# Altium footprint library Badge.PcbLib: 20 footprints (part 1 of 2)
Each footprint in its own frame and in the unit in brackets; x right, y up, seen from the top. Pads: shape width x height; smd on the part's side, far side on the other; paste and mask are expansions set on the pad; w line width, h text height; cw(c..) or ccw(c..) is an arc to the next point about the centre after c.
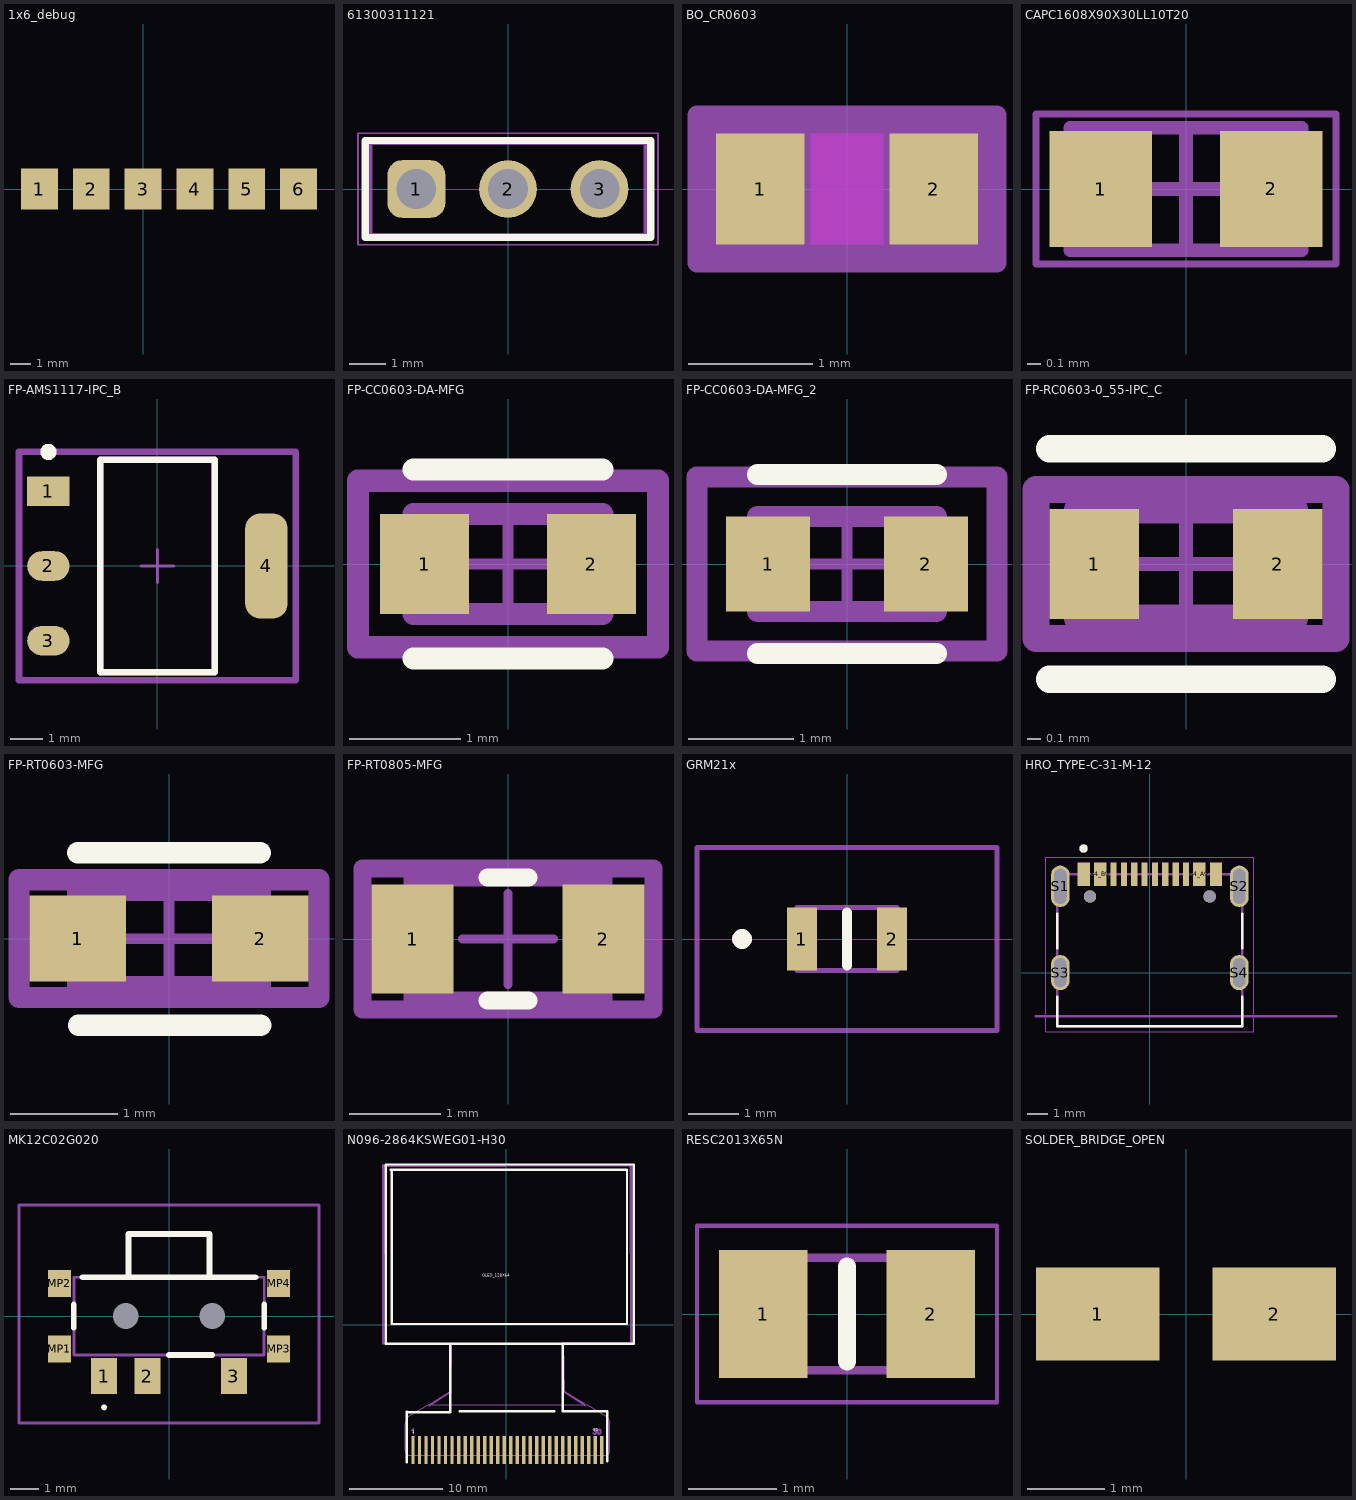
[diagram p0: the footprints below, top view; thin cyan lines are the x and y axes]

## 1x6_debug [mm] "2.54mm"
pads (6):
  rect 1.8x2 smd paste+0 mask+0.051: 1(-5.08,0) 2(-2.54,0) 3(0,0) 4(2.54,0) 5(5.08,0) 6(7.62,0)
3D body "DS1021-1x6S61.stp": height 8.6, standoff -3, extent -6.35,-1.27 8.89,1.27

## 61300311121 [mm] "Pin Header, pitch 2.54 mm, THT, Vertical, single row, 3p"
height 8.54
pads (3):
  rrect50% 1.6x1.6 hole 1.1: 1(-2.54,0)
  round 1.6 hole 1.1: 2(0,0) 3(2.54,0)
Top Overlay:
  lines w0.2: -3.96,-1.345 3.96,-1.345 3.96,1.345 -3.96,1.345 -3.96,-1.345
Top Designator:
  text ".Designator" at -7.498,-0.5 h1.5
Top Component Outline:
  lines w0.1: -3.81,-1.27 -3.81,1.27 3.81,1.27 3.81,-1.27 -3.81,-1.27
Top 3D Body:
  lines w0.1: -3.81,-1.27 -3.81,1.27 3.81,1.27 3.81,-1.27 -3.81,-1.27
Top Courtyard:
  lines w0.05: -0.5,0 0.5,0 ; 0,-0.5 0,0.5 ; -4.16,-1.545 -4.16,1.545 4.16,1.545 4.16,-1.545 -4.16,-1.545
3D body "61300311121.stp": height 8.57, standoff -2.97, extent -3.81,-1.27 3.81,1.27

## BO_CR0603 [mil]
pads (2):
  rect 28x35 smd paste+0 mask+0: 1(-27.5,0) 2(27.5,0)
Top Layer keep-out:
  region: -11.5,-15.5 -11.5,15.5 11.5,15.5 11.5,-15.5
Keep-Out Layer:
  region: -11.5,-17.5 -11.5,17.5 11.5,17.5 11.5,-17.5
Top 3D Body:
  lines w1: -33.5,-17.5 -33.5,17.5 ; -33.5,-17.5 -13.5,-17.5 -13.5,17.5 -33.5,17.5 ; -33.5,-17.5 33.5,-17.5 ; -33.5,-17.5 -33.5,17.5 ; -33.5,17.5 33.5,17.5 ; 33.5,-17.5 13.5,-17.5 13.5,17.5 33.5,17.5 ; 33.5,-17.5 33.5,17.5 ; 33.5,-17.5 33.5,17.5
Top Courtyard:
  region: 47.5,-23.5 -47.5,-23.5 -47.5,23.5 47.5,23.5
  lines w6: -47.5,-23.5 -47.5,23.5 47.5,23.5 47.5,-23.5 -47.5,-23.5
3D body "BO_CR0603.step": height 22.01, standoff 0, extent -33.5,-17.48 33.5,17.48

## CAPC1608X90X30LL10T20 [mm] "Chip Capacitor, 2-Leads, Body 1.70x0.90mm, IPC High Density"
height 0.9
pads (2):
  rect 0.75x0.85 smd: 1(-0.625,0) 2(0.625,0)
Top 3D Body:
  lines w0.1: -0.85,-0.45 -0.85,0.45 0.85,0.45 0.85,-0.45 -0.85,-0.45
Top Courtyard:
  lines w0.05: -1.1,-0.55 -1.1,0.55 1.1,0.55 1.1,-0.55 -1.1,-0.55
  lines w0.1: -0.45,0 0.45,0 ; 0,-0.45 0,0.45
3D body "CAPC1608X09L.step": height 0.9, standoff 0, extent -0.85,-0.45 0.85,0.45

## FP-AMS1117-IPC_B [mm]
pads (4):
  rect 1.304x0.912 smd paste+0 mask+0: 1(-3.345,2.29)
  rrect100% 1.304x0.912 smd paste+0 mask+0: 2(-3.345,0) 3(-3.345,-2.29)
  rrect70% 1.304x3.222 smd paste+0 mask+0: 4(3.345,0)
Top Overlay:
  circle w0.25: c-3.345,3.5 r0.125
  lines w0.2: -1.753,-3.253 -1.753,3.253 1.753,3.253 1.753,-3.253 -1.753,-3.253
Top Assembly:
  lines w0.2: -4.247,-3.502 -4.247,3.502 4.247,3.502 4.247,-3.502 -4.247,-3.502
  text ".Designator" at 0,0.189 h1
Top 3D Body:
  lines w0.2: -1.753,-3.253 -1.753,3.253 1.753,3.253 1.753,-3.253 -1.753,-3.253
Top Courtyard:
  lines w0.2: -4.247,-3.502 -4.247,3.502 4.247,3.502 4.247,-3.502 -4.247,-3.502
Top Component Center:
  lines w0.1: -0.5,0 0.5,0 ; 0,-0.5 0,0.5
3D body "IC_Advanced_Monolithic_Systems_AMS1117-3_3_eec.STEP": height 1.8, standoff 0, extent -3.527,-3.253 3.527,3.253

## FP-CC0603-DA-MFG [mm]
height 16
pads (2):
  rect 0.8x0.9 smd paste+0 mask+0: 1(-0.75,0) 2(0.75,0)
Top Overlay:
  lines w0.2: -0.85,-0.85 0.85,-0.85 ; -0.85,0.85 0.85,0.85
Top Assembly:
  lines w0.2: -1.35,-0.75 -1.35,0.75 1.35,0.75 1.35,-0.75 -1.35,-0.75
  text ".Designator" at 0,0.189 h1
Top 3D Body:
  lines w0.2: -0.85,-0.45 -0.85,0.45 0.85,0.45 0.85,-0.45 -0.85,-0.45
Top Courtyard:
  lines w0.2: -1.35,-0.75 -1.35,0.75 1.35,0.75 1.35,-0.75 -1.35,-0.75
Top Component Center:
  lines w0.1: -0.5,0 0.5,0 ; 0,-0.5 0,0.5
3D body "Cap_YAGEO_CC0603KRX7R9BB271_eec.STEP": height 0.9, standoff 0, extent -0.8,-0.4 0.8,0.4

## FP-CC0603-DA-MFG_2 [mm]
pads (2):
  rect 0.8x0.9 smd paste+0 mask+0: 1(-0.75,0) 2(0.75,0)
Top Overlay:
  lines w0.2: -0.85,-0.85 0.85,-0.85 ; -0.85,0.85 0.85,0.85
Top Assembly:
  lines w0.2: -1.425,-0.825 -1.425,0.825 1.425,0.825 1.425,-0.825 -1.425,-0.825
  text ".Designator" at 0,0.189 h1
Top 3D Body:
  lines w0.2: -0.85,-0.45 -0.85,0.45 0.85,0.45 0.85,-0.45 -0.85,-0.45
Top Courtyard:
  lines w0.2: -1.425,-0.825 -1.425,0.825 1.425,0.825 1.425,-0.825 -1.425,-0.825
Top Component Center:
  lines w0.1: -0.5,0 0.5,0 ; 0,-0.5 0,0.5
3D body "Cap_Yageo_CC0603KRX7R5BB104_eec.STEP": height 0.9, standoff 0, extent -0.8,-0.4 0.8,0.4

## FP-RC0603-0_55-IPC_C [mm]
height 16
pads (2):
  rect 0.659x0.812 smd paste+0 mask+0: 1(-0.677,0) 2(0.677,0)
Top Overlay:
  lines w0.2: -1.006,-0.85 1.006,-0.85 ; -1.006,0.85 1.006,0.85
Top Assembly:
  lines w0.2: -1.106,-0.55 -1.106,0.55 1.106,0.55 1.106,-0.55 -1.106,-0.55
  text ".Designator" at 0,0.189 h1
Top 3D Body:
  lines w0.2: -0.8,-0.4 -0.8,0.4 0.8,0.4 0.8,-0.4 -0.8,-0.4
Top Courtyard:
  lines w0.2: -1.106,-0.55 -1.106,0.55 1.106,0.55 1.106,-0.55 -1.106,-0.55
Top Component Center:
  lines w0.1: -0.5,0 0.5,0 ; 0,-0.5 0,0.5
3D body "Res_Yageo_RC0603FR-07100KL_eec.STEP": height 0.55, standoff 0, extent -0.8,-0.4 0.8,0.4

## FP-RT0603-MFG [mm]
height 16
pads (2):
  rect 0.9x0.8 smd paste+0 mask+0: 1(-0.85,0) 2(0.85,0)
Top Overlay:
  lines w0.2: -0.85,0.8 0.85,0.8 ; -0.845,-0.807 0.855,-0.807
Top Assembly:
  lines w0.2: -1.4,-0.55 -1.4,0.55 1.4,0.55 1.4,-0.55 -1.4,-0.55
  text ".Designator" at 0,0.189 h1
Top 3D Body:
  lines w0.2: -0.85,-0.45 -0.85,0.45 0.85,0.45 0.85,-0.45 -0.85,-0.45
Top Courtyard:
  lines w0.2: -1.4,-0.55 -1.4,0.55 1.4,0.55 1.4,-0.55 -1.4,-0.55
Top Component Center:
  lines w0.1: -0.5,0 0.5,0 ; 0,-0.5 0,0.5
3D body "Res_Yageo_RT0603CRE0724K3L_eec.STEP": height 0.58, standoff 0, extent -0.761,-0.399 0.839,0.401

## FP-RT0805-MFG [mm]
height 16
pads (2):
  rect 0.9x1.2 smd paste+0 mask+0: 1(-1.05,0) 2(1.05,0)
Top Overlay:
  lines w0.2: -0.225,-0.675 0.225,-0.675 ; -0.225,0.675 0.225,0.675
Top Assembly:
  lines w0.2: -1.6,-0.775 1.6,-0.775 1.6,0.775 -1.6,0.775 -1.6,-0.775
  text ".Designator" at 0,0.189 h1
Top 3D Body:
  lines w0.2: -1.05,-0.675 1.05,-0.675 1.05,0.675 -1.05,0.675 -1.05,-0.675
Top Courtyard:
  lines w0.2: -1.6,-0.775 1.6,-0.775 1.6,0.775 -1.6,0.775 -1.6,-0.775
Top Component Center:
  lines w0.1: -0.5,0 0.5,0 ; 0,-0.5 0,0.5
3D body "Res_Yageo_RT0805WRB07165RL_eec.STEP": height 0.6, standoff 0, extent -0.998,-0.625 1.002,0.625

## GRM21x [mm]
height 16
pads (2):
  rect 0.6x1.25 smd: 1(-0.9,0) 2(0.9,0)
Top Overlay:
  lines w0.2: 0,-0.525 0,0.525 ; -2.1,-0.1 cw(c-2.1,0) -2.1,0.1 cw(c-2.1,0) -2.1,-0.1
Top 3D Body:
  lines w0.1: -1,-0.625 1,-0.625 1,0.625 -1,0.625 -1,-0.625
Top Courtyard:
  lines w0.1: -3,-1.825 3,-1.825 3,1.825 -3,1.825 -3,-1.825
3D body "GRM21BR61H106KE43L.stp": height 1, standoff 0, extent -1,-0.625 1,0.625

## HRO_TYPE-C-31-M-12 [mm]
height 3.26
pads (18):
  rect 0.6x1.14 smd mask+0.05: A1_B12(-3.2,4.75) A4_B9(-2.4,4.75) B1_A12(3.2,4.75) B4_A9(2.4,4.75)
  rect 0.3x1.14 smd mask+0.05: A5(-1.25,4.75) A6(-0.25,4.75) A7(0.25,4.75) A8(1.25,4.75) B5(1.75,4.75) B6(0.75,4.75) B7(-0.75,4.75) B8(-1.75,4.75)
  oval 0.9x2 hole 0.6 slot 1.7 at 90 deg: S1(-4.325,4.17) S2(4.325,4.17)
  oval 0.9x1.7 hole 0.6 slot 1.4 at 90 deg: S3(-4.325,0) S4(4.325,0)
  round 0.6 hole 0.6 unplated: ""(-2.89,3.68) ""(2.89,3.68)
Top Overlay:
  circle w0.2: c-3.2,6 r0.1
  lines w0.127: -4.47,-1.17 -4.47,-2.6 4.47,-2.6 4.47,-1.17 ; -4.47,1.17 -4.47,2.85 ; 4.47,1.17 4.47,2.85
Top 3D Body:
  circle w0.2: c-3.2,6 r0.1
  lines w0.127: -5.5,-2.11 9,-2.11 ; -4.47,-2.6 4.47,-2.6 4.47,4.75 -4.47,4.75 -4.47,-2.6
  text "PCB EDGE" at 5.2,-1.9 h0.61
Top Courtyard:
  lines w0.05: -5.025,-2.85 -5.025,5.57 5.025,5.57 5.025,-2.85 -5.025,-2.85
3D body "step_temp.STEP": height 3.31, standoff -0.99, extent -4.47,-2.6 4.47,5.305

## MK12C02G020 [mm]
pads (9):
  rect 0.9x1.25 smd: 1(-2.25,-2.075) 2(-0.75,-2.075) 3(2.25,-2.075)
  round 0.45 hole 0.9 unplated: MH1(-1.5,0) MH2(1.5,0)
  rect 0.8x0.93 smd: MP1(-3.8,-1.135) MP2(-3.8,1.135) MP3(3.8,-1.135) MP4(3.8,1.135)
Top Overlay:
  lines w0.1: -2.25,-3.213 ccw(c-2.25,-3.163) -2.25,-3.113 ccw(c-2.25,-3.163) -2.25,-3.213
  lines w0.2: -3.3,-0.4 -3.3,0.4 ; -3,1.35 3,1.35 ; -1.4,1.35 -1.4,2.85 1.4,2.85 1.4,1.35 ; 0,-1.35 1.5,-1.35 ; 3.3,-0.4 3.3,0.4
Top 3D Body:
  lines w0.1: -1.4,1.35 -1.4,2.85 1.4,2.85 1.4,1.35 ; -3.3,-1.35 -3.3,1.35 3.3,1.35 3.3,-1.35 -3.3,-1.35
Top Courtyard:
  lines w0.1: -5.2,-3.7 -5.2,3.85 5.2,3.85 5.2,-3.7 -5.2,-3.7

## N096-2864KSWEG01-H30 [mm] "https://jlcpcb.com/partdetail/Newvisio-N096_2864KSWEG01H30/C2890596 / OLED SSD1306"
pads (30):
  rect 0.351x3 smd paste+0 mask+0.051: 1(-10.005,-13.481) 2(-9.305,-13.483) 3(-8.605,-13.483) 4(-7.905,-13.483) 5(-7.205,-13.483) 6(-6.505,-13.483) 7(-5.805,-13.483) 8(-5.105,-13.483) 9(-4.405,-13.483) 10(-3.705,-13.483) 11(-3.005,-13.483) 12(-2.305,-13.483) 13(-1.605,-13.483) 14(-0.905,-13.483) 15(-0.205,-13.483) 16(0.495,-13.483) 17(1.195,-13.483) 18(1.895,-13.483) 19(2.595,-13.483) 20(3.295,-13.483) 21(3.995,-13.483) 22(4.695,-13.483) 23(5.395,-13.483) 24(6.095,-13.483) 25(6.795,-13.483) 26(7.495,-13.483) 27(8.195,-13.483) 28(8.895,-13.485) 29(9.595,-13.486) 30(10.295,-13.486)
Top Overlay:
  lines w0.254: -12.297,16.676 13.003,16.676 13.003,0.076 -12.297,0.076 -12.297,16.576 -12.397,16.676 -12.097,16.676 -11.697,16.676 ; -10.703,-14.785 -10.703,-9.385 ; -10.697,-9.424 -5.997,-9.424 -5.997,-2.024 ; -4.997,-9.324 5.203,-9.324 ; 6.103,-2.124 6.103,-9.324 10.903,-9.324 ; 10.897,-14.685 10.897,-9.285 ; -12.955,-2.044 13.745,-2.044 13.745,17.216 -12.955,17.216 -12.955,-2.044
  text "OLED_128X64" at -2.54,5.154 h0.33
  text "30" at 9.361,-11.453 h0.33
  text "1" at -10.105,-11.672 h0.33
Mechanical 6:
  region: 9.345,-11.284 9.385,-11.334 9.525,-11.334 9.465,-11.434 9.465,-11.484 9.505,-11.524 9.585,-11.534 9.605,-11.534 9.625,-11.574 9.625,-11.604 9.605,-11.644 9.575,-11.664 9.545,-11.684 9.495,-11.674 9.455,-11.664 9.435,-11.604 9.385,-11.584 9.315,-11.604 9.295,-11.644 9.325,-11.734 9.395,-11.794 9.475,-11.824 9.575,-11.824 9.675,-11.794 9.745,-11.724 9.765,-11.644 9.775,-11.544 9.745,-11.454 9.695,-11.414 9.675,-11.394 9.735,-11.314 9.755,-11.264 9.735,-11.214 9.695,-11.184 9.395,-11.184 9.345,-11.234
  region: 10.165,-11.764 10.065,-11.824 9.965,-11.824 9.875,-11.784 9.805,-11.704 9.785,-11.584 9.785,-11.434 9.805,-11.334 9.875,-11.224 10.005,-11.184 9.995,-11.344 9.965,-11.364 9.945,-11.394 9.925,-11.474 9.925,-11.534 9.945,-11.624 9.975,-11.664 10.015,-11.674 10.055,-11.664 10.075,-11.634 10.095,-11.534 10.095,-11.484 10.075,-11.394 10.055,-11.354 10.005,-11.334 10.015,-11.184 10.095,-11.204 10.155,-11.234 10.215,-11.314 10.255,-11.454 10.245,-11.574 10.225,-11.684 10.165,-11.764
  region: -10.175,-11.354 -10.135,-11.404 -10.085,-11.404 -10.045,-11.394 -10.055,-11.734 -9.975,-11.804 -9.905,-11.734 -9.905,-11.214 -9.955,-11.164 -10.025,-11.174 -10.095,-11.244 -10.165,-11.284
  region: 8.635,-8.574 6.295,-7.144 6.225,-2.034 13.535,-2.054 13.495,17.226 0.165,17.206 0.165,16.996 13.295,17.036 13.335,-1.874 6.135,-1.904 6.035,-1.894 6.075,-7.154 6.075,-7.224 8.535,-8.754 8.405,-8.474
  region: -8.435,-8.644 -6.095,-7.214 -6.025,-2.104 -13.335,-2.124 -13.295,17.156 0.035,17.136 0.035,16.926 -13.095,16.966 -13.135,-1.944 -5.935,-1.974 -5.835,-1.964 -5.875,-7.224 -5.875,-7.294 -8.335,-8.824 -8.205,-8.544
Top Courtyard:
  drawing of 49 lines, arcs and shapes, not listed

## RESC2013X65N [mm]
height 16
pads (2):
  rect 1x1.45 smd: 1(-0.95,0) 2(0.95,0)
Top Overlay:
  lines w0.2: 0,-0.538 0,0.538
Top 3D Body:
  lines w0.1: -1,-0.638 1,-0.638 1,0.638 -1,0.638 -1,-0.638
Top Courtyard:
  lines w0.05: -1.7,-1 1.7,-1 1.7,1 -1.7,1 -1.7,-1
3D body "0805W8F5101T5E.stp": height 0.65, standoff 0, extent -1,-0.637 1,0.637

## SOLDER_BRIDGE_OPEN [mm]
pads (2):
  rect 1.6x1.2 smd paste+0 mask+0.051: 1(-1.143,0) 2(1.143,0)